# Altium schematic symbol library 104346-2.SchLib: 1 symbol
Pins are listed as number, name and electrical type; pins without a type are passive.

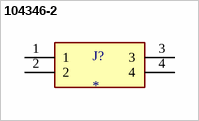
[diagram p0: symbol 104346-2]

## 104346-2
designator J?
Conn Unshrouded Header HDR 4 POS 2.54mm Solder ST Thru-Hole Automotive Carton; MF: TE Connectivity; MP: 104346-2; SnapEDA_Link: https://www.snapeda.com/parts/104346-2/TE+Connectivity+AMP+Connectors/view-part/?ref=snap; Package: None; Value: *; EU_RoHS_Compliance: Not Compliant; Check_prices: https://www.snapeda.com/parts/104346-2/TE+Connectivity+AMP+Connectors/view-part/?ref=eda
footprint TE_104346-2
pins: 1, 2, 3, 4